# EAGLE library part KXN_HEADER_1X23 (library kxnStandard_connector)
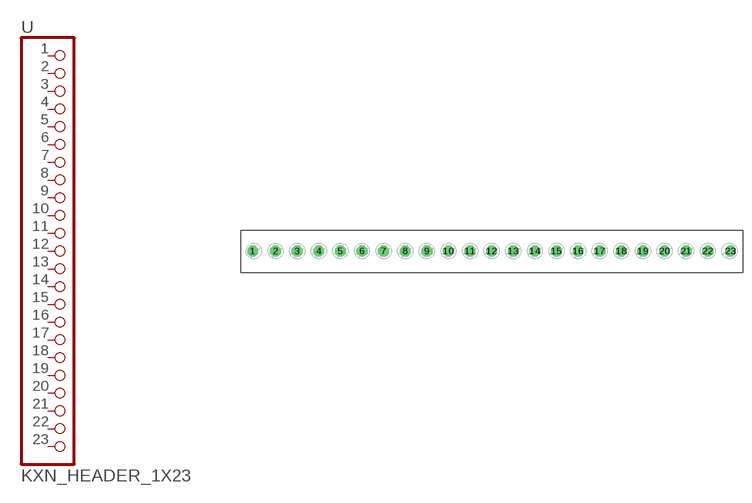
[diagram p22: symbol with the pads of H381_23P_SCREW_FIX_FULL; footprint H381_23P_SCREW_FIX_FULL]

Designator prefix -

## KXN_HEADER_1X23_TERMINAL_381_V1 (CC_SHOP: CongCo)  [H381_23P_SCREW_FIX_FULL]
1  1  pas
2  2  pas
3  3  pas
4  4  pas
5  5  pas
6  6  pas
7  7  pas
8  8  pas
9  9  pas
10  10  pas
11  11  pas
12  12  pas
13  13  pas
14  14  pas
15  15  pas
16  16  pas
17  17  pas
18  18  pas
19  19  pas
20  20  pas
21  21  pas
22  22  pas
23  23  pas

## Footprint H381_23P_SCREW_FIX_FULL (pad centres in mm)
drill 1.2 pad 1.9 octagon: 1 -42.105,0; 2 -38.1,0; 3 -34.29,0; 4 -30.48,0; 5 -26.67,0; 6 -22.86,0; 7 -19.05,0; 8 -15.24,0; 9 -11.43,0; 10 -7.62,0; 11 -3.81,0; 12 0,0; 13 3.81,0; 14 7.62,0; 15 11.43,0; 16 15.24,0; 17 19.05,0; 18 22.86,0; 19 26.67,0; 20 30.48,0; 21 34.29,0; 22 38.1,0; 23 42.105,0